# Altium footprint library ZhuKong.PcbLib: 34 footprints (part 3 of 3)
Each footprint in its own frame and in the unit in brackets; x right, y up, seen from the top. Pads: shape width x height; smd on the part's side, far side on the other; paste and mask are expansions set on the pad; w line width, h text height; cw(c..) or ccw(c..) is an arc to the next point about the centre after c.
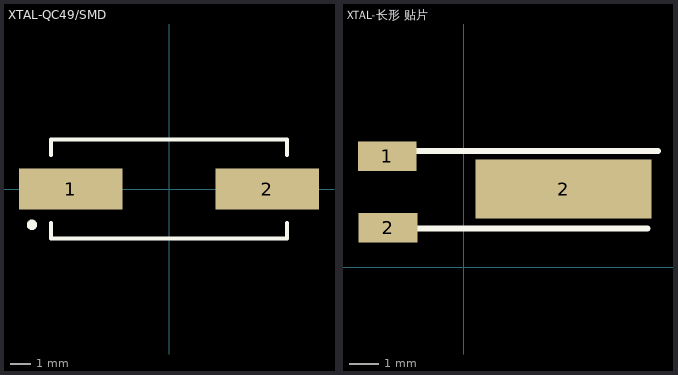
[diagram p2: the footprints below, top view; thin cyan lines are the x and y axes]

## XTAL-QC49/SMD [mm]
pads (2):
  rect 5x2 smd: 1(-4.75,0) 2(4.75,0)
Top Overlay:
  circle w0.25: c-6.625,-1.73 r0.125
  lines w0.2: -5.7,-1.65 -5.7,-2.4 5.7,-2.4 5.7,-1.65 ; -5.7,1.65 -5.7,2.4 5.7,2.4 5.7,1.65
3D body: height 4, standoff 0, extent -6.7,-2.462 6.7,2.438

## XTAL-长形 贴片 [mm]
pads (3):
  rect 2x1 smd: 1(-2.616,3.785) 2(-2.591,1.346)
  rect 6x2 smd: 2(3.404,2.667)
Top Overlay:
  lines w0.2: -2.84,3.962 6.629,3.962 ; -2.789,1.321 6.274,1.321
3D body: height 2, standoff 0, extent -2.898,1.242 6.102,4.042